# Altium schematic symbol library DIODE TVS SC1103C-01UTG.SchLib: 1 symbol
Pins are listed as number, name and electrical type; pins without a type are passive.

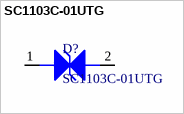
[diagram p0: symbol SC1103C-01UTG]

## SC1103C-01UTG
designator D?
TVS Diode, bidirectional, 3V3 reverse standoff, 3V4 breakdown, 9V Clamping, 80A peak pulse
pins: 1, 2